# Altium footprint library AYZ0102AGRLC.PcbLib: 1 footprints
Each footprint in its own frame and in the unit in brackets; x right, y up, seen from the top. Pads: shape width x height; smd on the part's side, far side on the other; paste and mask are expansions set on the pad; w line width, h text height; cw(c..) or ccw(c..) is an arc to the next point about the centre after c.
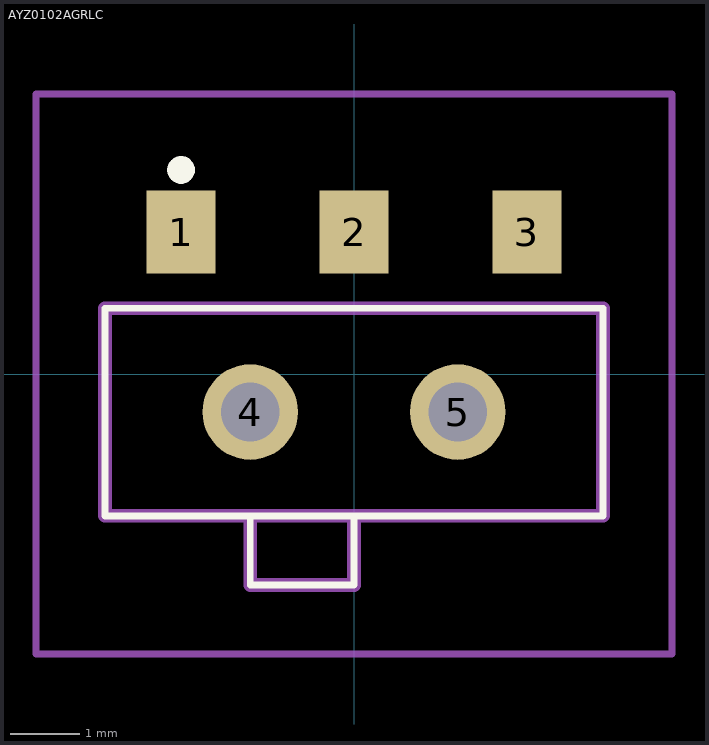
[diagram p0: the footprint, top view; thin cyan lines are the x and y axes]

## AYZ0102AGRLC [mm]
pads (5):
  rect 1x1.2 smd: 1(-2.5,2.05) 2(0,2.05) 3(2.5,2.05)
  round 1.381 hole 0.85: 4(-1.5,-0.55) 5(1.5,-0.55)
Top Overlay:
  lines w0.1: -1.5,-2.05 -1.5,-3.05 0,-3.05 0,-2.05 ; -3.6,-2.05 3.6,-2.05 3.6,0.95 -3.6,0.95 -3.6,-2.05
  lines w0.2: -2.6,2.95 -2.6,2.95 ; -2.6,2.95 cw(c-2.5,2.95) -2.4,2.95 ; -2.6,2.95 ccw(c-2.5,2.95) -2.4,2.95 ; -2.4,2.95 -2.4,2.95
Mechanical 15:
  lines w0.2: -1.5,-2.05 -1.5,-3.05 0,-3.05 0,-2.05 ; -3.6,-2.05 3.6,-2.05 3.6,0.95 -3.6,0.95 -3.6,-2.05
Mechanical 20:
  lines w0.1: -4.6,-4.05 4.6,-4.05 4.6,4.05 -4.6,4.05 -4.6,-4.05